# Altium schematic symbol library 2171830001.SchLib: 1 symbol
Pins are listed as number, name and electrical type; pins without a type are passive.

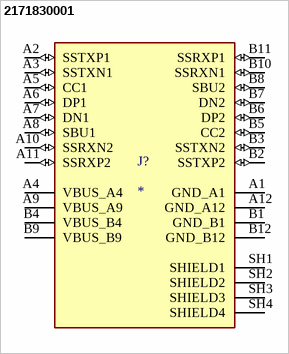
[diagram p0: symbol 2171830001]

## 2171830001
designator J?
MF: {'manufacturer': u'Molex'}; MP: 2171830001; Package: None; Price: None; Value: *; Availability: Unavailable
footprint MOLEX_2171830001
pins: A1 GND_A1 (power), A2 SSTXP1 (io), A3 SSTXN1 (io), A4 VBUS_A4 (power), A5 CC1 (io), A6 DP1 (io), A7 DN1 (io), A8 SBU1 (io), A9 VBUS_A9 (power), A10 SSRXN2 (io), A11 SSRXP2 (io), A12 GND_A12 (power), B1 GND_B1 (power), B2 SSTXP2 (io), B3 SSTXN2 (io), B4 VBUS_B4 (power), B5 CC2 (io), B6 DP2 (io), B7 DN2 (io), B8 SBU2 (io), B9 VBUS_B9 (power), B10 SSRXN1 (io), B11 SSRXP1 (io), B12 GND_B12 (power), SH1 SHIELD1, SH2 SHIELD2, SH3 SHIELD3, SH4 SHIELD4